# EAGLE library part TD1484A (library template)
The TD1484 is a monolithic synchronous buck regulator. The device integrates two 90mΩ MOSFETs, and provides 3A of continuous load current over a wide input voltage of 4.75V to 23V. Current mode control provides fast transient response and cycle-by-cycle current limit. An adjustable soft-start prevents inrush current at turn-on, and in shutdown mode the supply current drops to 1μA. This device, available in an SOP8-PP package, provides a very compact solution with minimal external components.
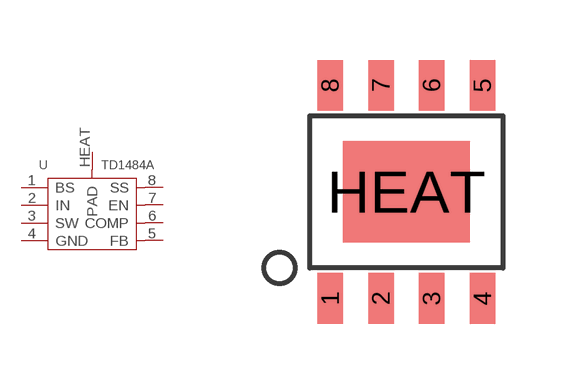
[diagram p26: symbol with the pads of SOP8-W/HEAT; footprint SOP8-W/HEAT]

Designator prefix U

## TD1484A  [SOP8-W/HEAT]
1  BS
2  IN
3  SW
4  GND
5  FB
6  COMP
7  EN
8  SS
HEAT  PAD

## Footprint SOP8-W/HEAT (pad centres in mm)
smd 0.635 x 1.27: 1 -1.905,-2.667; 2 -0.635,-2.667; 3 0.635,-2.667; 4 1.905,-2.667; 5 1.905,2.667; 6 0.635,2.667; 7 -0.635,2.667; 8 -1.905,2.667
smd 3.175 x 2.54: HEAT 0,0